# Altium schematic symbol library Header 4x1 OLED.SchLib: 1 symbol
Pins are listed as number, name and electrical type; pins without a type are passive.

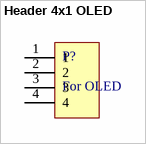
[diagram p0: symbol Header 4x1 OLED]

## Header 4x1 OLED
designator P?, comment For OLED
Referred to the Miscellenous Connectors.IntLib Head 4.
footprint Header 4x1
pins: 1, 2, 3, 4